# EAGLE library part IR2104SPBF (library IR2104SPBF)
HALF-BRIDGE DRIVER
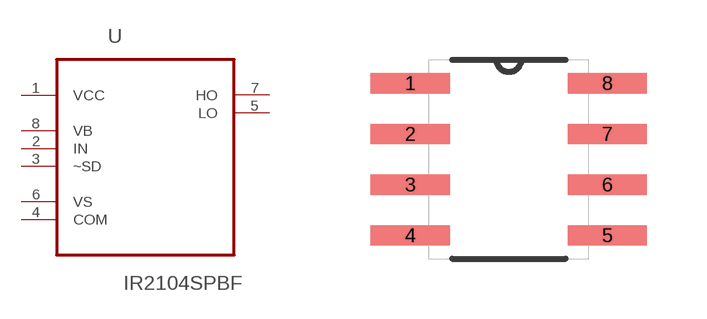
[diagram p0: symbol with the pads of SOIC127P600X175-8N; footprint SOIC127P600X175-8N]

Designator prefix U

## IR2104SPBF (Availability: Good; Description: IC DRIVER HIGH/LOW SIDE 8SOIC; MF: Infineon Technologies; MP: IR2104SPBF; Package: SOIC-8 Infineon; Price: 1.23 USD)  [SOIC127P600X175-8N]
1  VCC  pwr
2  IN  in
3  ~SD  in
4  COM  pas
5  LO  out
6  VS  pwr
7  HO  out
8  VB  pwr

## Footprint SOIC127P600X175-8N (pad centres in mm)
smd 1.981 x 0.508: 1 -2.464,1.905; 2 -2.464,0.635; 3 -2.464,-0.635; 4 -2.464,-1.905; 5 2.464,-1.905; 6 2.464,-0.635; 7 2.464,0.635; 8 2.464,1.905